# Altium footprint library HTSW-105-07-L-S.PcbLib: 1 footprints
Each footprint in its own frame and in the unit in brackets; x right, y up, seen from the top. Pads: shape width x height; smd on the part's side, far side on the other; paste and mask are expansions set on the pad; w line width, h text height; cw(c..) or ccw(c..) is an arc to the next point about the centre after c.
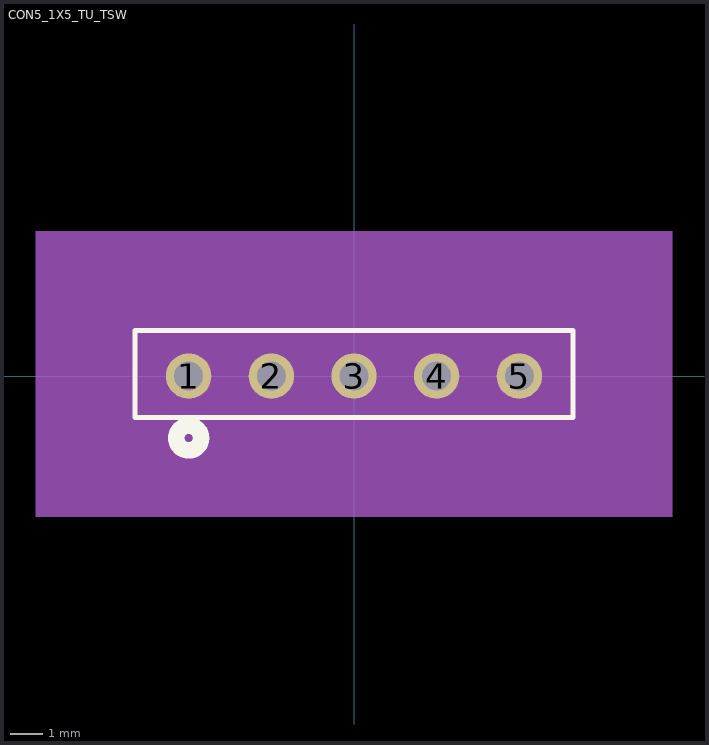
[diagram p0: the footprint, top view; thin cyan lines are the x and y axes]

## CON5_1X5_TU_TSW [mil]
pads (5):
  round 55 hole 35 mask+0: 1(-200,0) 2(-100,0) 3(0,0) 4(100,0) 5(200,0)
Top Overlay:
  circle w20: c-200,-75 r15
  lines w6: -265,-50 265,-50 265,55 -265,55 -265,-50
Bottom Overlay:
  circle w20: c-200,-75 r15
Mechanical 5:
  region: -385,175 385,175 385,-170 -385,-170
Mechanical 13:
  circle w0: c-200,0 r10
  lines w1: -260,-45 260,-45 260,50 -260,50 -260,-45
Mechanical 15:
  region: 270,60 250,60 250,102 -250,102 -250,60 -270,60 -270,-55 -250,-55 -250,-102 250,-102 250,-55 270,-55
  lines w6: -270,-55 -270,60 -250,60 -250,102 250,102 250,60 270,60 270,-55 250,-55 250,-102 -250,-102 -250,-55 -270,-55
3D body "CON5_1X5_TU_TSW.step": height 500, standoff 0, extent -250,-50 250,50